# EAGLE library part USB-CABLE-A (library m_connector)
USB cable with type A plug, shielded. Created 2015-12-15
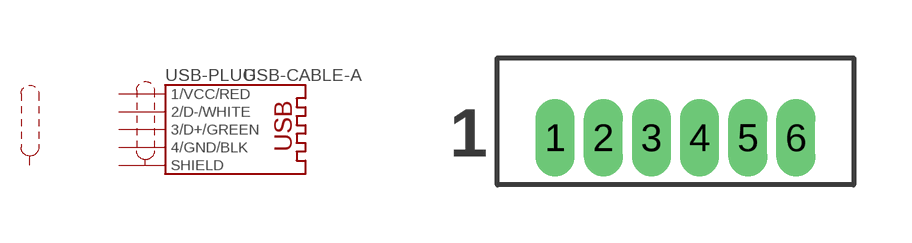
[diagram p9: symbol with the pads of MOLEX_53047-0610; footprint MOLEX_53047-0610]

Designator prefix USB; gates -PLUG=USB-A-PLUG -SHIELD=SHIELD_04

## USB-CABLE-A  [MOLEX_53047-0610]
1  -PLUG:SHIELD  pas
2  -PLUG:1/VCC/RED  pas
3  -PLUG:2/D-/WHITE  pas
4  -PLUG:3/D+/GREEN  pas
5  -PLUG:4/GND/BLK  pas
6  -SHIELD:SHIELD  pas

## Footprint MOLEX_53047-0610 (pad centres in mm)
Molex 53047 Series, 1.25mm Pitch, 6 Conductor Molex 1.25mm pitch through hole connector. Pre tinned phosphor bronze pins, mates with 51021 series.
drill 0.5 long: 1 -3.125,0; 2 -1.875,0; 3 -0.625,0; 4 0.625,0; 5 1.875,0; 6 3.125,0